# Altium schematic symbol library Fixed-Inductors.SchLib: 6 symbols
Pins are listed as number, name and electrical type; pins without a type are passive.

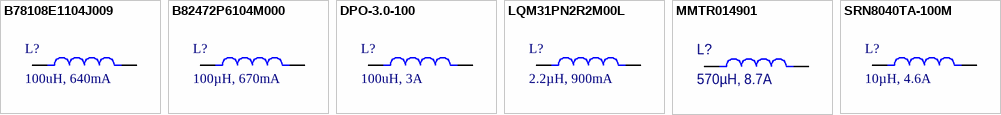
[diagram p0: symbols B78108E1104J009 to SRN8040TA-100M]

## B78108E1104J009
designator L?, comment 100uH, 640mA
FIXED IND 100UH 640MA 1.45OHM TH; Manufacturer: TDK EPCOS; Manufacturer Part Number: B78108E1104J009; Manufacturer Series: B78108E; Inductor Type: GENERAL PURPOSE INDUCTOR; Supplier: Digikey; Supplier Part Number: 495-76014-1-ND; RoHS: Yes; Category: Fixed Inductors; Stock: 29200; Pricing: 1=0.39, 10=0.313, 25=0.2892, 50=0.265, 100=0.2337, 250=0.22644, 500=0.20234, 1000=0.1638 (USD); RoHS Compliant: Yes; Reach SVHC Compliant: No; ComponentLink1URL: https://datasheet.ciiva.com:443/pdfs/VipMasterIC/IC/TDKC/TDKC-S-A0008258046/TDKC-S-A0008258046-1.pdf?src-supplier=IHS+Markit; ComponentLink1Description: https://datasheet.ciiva.com:443/pdfs/VipMasterIC/IC/TDKC/TDKC-S-A0008258046/TDKC-S-A0008258046-1.pdf?src-supplier=IHS+Markit; Value: 100uH
footprint IND-AXIAL_PTH_4X9.5MM
pins: 1, 2

## B82472P6104M000
designator L?, comment 100µH, 670mA
FIXED IND 100UH 670MA 390MOHM SM; Manufacturer: TDK EPCOS; Manufacturer Part Number: B82472P6104M000; Core Material: Ferrite; Tolerance: 20%; Case/Size Code: 2929; DC Resistance (DCR): 390mR; Inductor Application: POWER INDUCTOR; Inductor Type: GENERAL PURPOSE INDUCTOR; Channels: 1; Shape/Size Description: RECTANGULAR PACKAGE; Shielding: Shielded; Test Frequency: 100kHz; Package Height: 4.5mm; Package Length: 7.3mm; Reference Standard: AEC-Q200; Supplier: Digikey; Supplier Part Number: 495-5681-1-ND; RoHS: Yes; Category: Fixed Inductors; Stock: 16169; Pricing: 1=1.38, 10=0.768, 25=0.7468, 50=0.7252 (USD); Pins: 2; Terminal Finish: Tin; Min Operating Temperature: -55°C; Max Operating Temperature: 150°C; JESD-609 Code: e3; Construction: Magnetically Shielded; Inductance-Nom (L): 100uH; Package Style: SMTMeter; Packaging: Tape and Reel; Max Current Rating: 670mA; Surface Mount: Yes; Terminal Placement: Dual Ended; Termination: Wraparound; Package Width: 7.3mm; Reach SVHC Compliant: Yes; RoHS Compliant: Yes; ComponentLink1URL: https://datasheet.ciiva.com:443/pdfs/VipMasterIC/IC/TDKC/TDKC-S-A0008241786/TDKC-S-A0008241944-1.pdf?src-supplier=IHS+Markit; ComponentLink1Description: https://datasheet.ciiva.com:443/pdfs/VipMasterIC/IC/TDKC/TDKC-S-A0008241786/TDKC-S-A0008241944-1.pdf?src-supplier=IHS+Markit; ComponentLink2URL: https://datasheet.ciiva.com/13284/b82472g6-525414-13284668.pdf?src-supplier=Mouser; ComponentLink2Description: https://datasheet.ciiva.com/13284/b82472g6-525414-13284668.pdf?src-supplier=Mouser; ComponentLink3URL: https://datasheet.ciiva.com/22700/1899162-22700811.pdf?src-supplier=Element14; ComponentLink3Description: https://datasheet.ciiva.com/22700/1899162-22700811.pdf?src-supplier=Element14
footprint IND-NONSTANDARD_7.3X7.3MM
pins: 1, 2

## DPO-3.0-100
designator L?, comment 100uH, 3A
FIXED IND 100UH 3A 80 MOHM TH; Manufacturer: Nuvotem; Manufacturer Part Number: DPO-3.0-100; DC Resistance (DCR): 80mR; Inductor Type: GENERAL PURPOSE INDUCTOR; Lead Diameter: 0.63mm; Lead Length: 9.5mm; Package Diameter: 25mm; Package Length: 12mm; Supplier: Digikey; Supplier Part Number: 1295-1171-ND; RoHS: Yes; Category: Fixed Inductors; Stock: 2116; Pricing: 1=2.8, 10=2.376, 25=2.1896, 40=1.9565, 80=1.6305, 230=1.58387, 700=1.49071, 1400=1.39755, 2800=1.35096 (USD); Min Operating Temperature: -40°C; Max Operating Temperature: 125°C; Construction: Toroidal; Inductance-Nom (L): 100uH; Package Style: RadialMeter; Max Current Rating: 3A; Series: DP; Reach SVHC Compliant: Yes; RoHS Compliant: Yes; ComponentLink1URL: https://datasheet.ciiva.com:443/pdfs/VipMasterIC/IC/NUTA/NUTAS00013/NUTAS00013-1.pdf?src-supplier=IHS+Markit; ComponentLink1Description: https://datasheet.ciiva.com:443/pdfs/VipMasterIC/IC/NUTA/NUTAS00013/NUTAS00013-1.pdf?src-supplier=IHS+Markit; ComponentLink2URL: https://datasheet.ciiva.com/18686/dpfeb-07-18686759.pdf?src-supplier=Digikey; ComponentLink2Description: https://datasheet.ciiva.com/18686/dpfeb-07-18686759.pdf?src-supplier=Digikey
footprint IND-TOR_PTH_25X12MM
pins: 1, 2

## LQM31PN2R2M00L
designator L?, comment 2.2µH, 900mA
FIXED IND 2.2UH 900MA 238MOHM SM; Manufacturer: Murata; Manufacturer Part Number: LQM31PN2R2M00L; Core Material: Ferrite; Tolerance: 20%; Case/Size Code: 1206; DC Resistance (DCR): 238mR; Inductor Application: RF INDUCTOR; Inductor Type: GENERAL PURPOSE INDUCTOR; Channels: 1; Self Resonant Frequency: 40MHz; Shape/Size Description: RECTANGULAR PACKAGE; Shielding: Shielded; Test Frequency: 1MHz; Package Height: 0.85mm; Package Length: 3.2mm; Package Width: 1.6mm; Supplier: Digikey; Supplier Part Number: 490-6704-1-ND; RoHS: Yes; Category: Fixed Inductors; Stock: 3209; Pricing: 1=0.31, 10=0.237, 25=0.2144, 50=0.1988, 100=0.1843, 250=0.16664, 500=0.15442, 1000=0.14306 (USD); Pins: 2; Terminal Finish: Tin; Min Operating Temperature: -55°C; Max Operating Temperature: 125°C; JESD-609 Code: e3; Construction: Multilayer Chip; Inductance-Nom (L): 2.2uH; Package Style: SMTMeter; Packaging: Tape and Reel; Max Current Rating: 900mA; Surface Mount: Yes; Terminal Placement: Dual Ended; Termination: Wraparound; Reach SVHC Compliant: Yes; RoHS Compliant: Yes; ComponentLink1URL: https://psearch.en.murata.com:443/inductor/product/LQM31PN2R2M00_.pdf?src-supplier=IHS+Markit; ComponentLink1Description: https://psearch.en.murata.com:443/inductor/product/LQM31PN2R2M00_.pdf?src-supplier=IHS+Markit; ComponentLink2URL: https://datasheet.ciiva.com/3868/136lqm31pn2r2m0023-3868319.pdf?src-supplier=Arrow+Electronics; ComponentLink2Description: https://datasheet.ciiva.com/3868/136lqm31pn2r2m0023-3868319.pdf?src-supplier=Arrow+Electronics; ComponentLink3URL: https://datasheet.ciiva.com/30490/0900766b812561f7-30490183.pdf?src-supplier=Rs; ComponentLink3Description: https://datasheet.ciiva.com/30490/0900766b812561f7-30490183.pdf?src-supplier=Rs; ComponentLink4URL: https://datasheet.ciiva.com/4955/l0075s0104lqm31p-00-4955920.pdf?src-supplier=Mouser; ComponentLink4Description: https://datasheet.ciiva.com/4955/l0075s0104lqm31p-00-4955920.pdf?src-supplier=Mouser; ComponentLink5URL: https://datasheet.ciiva.com/6709/l0075s0104lqm31p-00-6709737.pdf?src-supplier=Digikey; ComponentLink5Description: https://datasheet.ciiva.com/6709/l0075s0104lqm31p-00-6709737.pdf?src-supplier=Digikey; ComponentLink6URL: https://datasheet.ciiva.com/6709/l0075s0104lqm31p-00-6709738.pdf?src-supplier=Digikey; ComponentLink6Description: https://datasheet.ciiva.com/6709/l0075s0104lqm31p-00-6709738.pdf?src-supplier=Digikey; ComponentLink7URL: https://datasheet.ciiva.com/6709/l0075s0104lqm31p-00-6709739.pdf?src-supplier=Digikey; ComponentLink7Description: https://datasheet.ciiva.com/6709/l0075s0104lqm31p-00-6709739.pdf?src-supplier=Digikey; ComponentLink8URL: https://datasheet.ciiva.com/8509/l0075s0104lqm31p-00-8509118.pdf?src-supplier=Avnet; ComponentLink8Description: https://datasheet.ciiva.com/8509/l0075s0104lqm31p-00-8509118.pdf?src-supplier=Avnet; ComponentLink9URL: https://datasheet.ciiva.com/16388/l0075s0104lqm31p-00-16388558.pdf?src-supplier=Future+Electronics; ComponentLink9Description: https://datasheet.ciiva.com/16388/l0075s0104lqm31p-00-16388558.pdf?src-supplier=Future+Electronics
footprint IND-SMD-1206
pins: 1, 2

## MMTR014901
designator L?, comment 570µH, 8.7A
FIXED IND 570UH 8.7A 65MOHM KOOL MU CORE; Manufacturer Part Number: MMTR014901; Manufacturer: Legrand; Value: 570µH; Supplier: Display Max Eletrônica
footprint IND-TOR-MMTR014901
footprint IND-TOR-MMTR014901_NO_MH
pins: 1, 2

## SRN8040TA-100M
designator L?, comment 10µH, 4.6A
FIXED IND 10UH 4.6A 33 MOHM SMD; Manufacturer: Bourns; Manufacturer Part Number: SRN8040TA-100M; Core Material: Ferrite; DC Resistance (DCR): 33mΩ; Inductance Tolerance: 20%; Number of Circuits: 1; Q Factor: 15; Saturation Current: 5A; Self Resonant Frequency: 25MHz; Shielding: Yes; Test Frequency: 1MHz; Supplier: DigiKey; Supplier Part Number: SRN8040TA-100MCT-ND; RoHS: Compliant; Category: Fixed Inductors; Stock: 3939; Pricing: 1=0.58, 10=0.479, 100=0.3942 (USD); Case/Package: 3131; China RoHS: Compliant; Contact Plating: Tin; Height: 3.7mm; Value: 10µH; Lifecycle Status: Production; Max Current Rating: 4.6A; Max Operating Temperature: 125°C; Min Operating Temperature: -55°C; Mounting Technology: Surface Mount; Number of Terminals: 2; Packaging: Cut Tape; REACH SVHC: Yes; RMS Current (Irms): 4.6A; Schedule B: 8504500000, 8504500000|8504500000, 8504500000|8504500000|8504500000, 8504500000|8504500000|8504500000|8504500000; Tolerance: 20%; Width: 8mm; ComponentLink1URL: https://datasheet.octopart.com:443/SRN8040TA-100M-Bourns-datasheet-164397475.pdf?src-supplier=IHS; ComponentLink1Description: https://datasheet.octopart.com:443/SRN8040TA-100M-Bourns-datasheet-164397475.pdf?src-supplier=IHS; ComponentLink2URL: https://datasheet.octopart.com:443/SRN8040TA-100M-Bourns-datasheet-68384046.pdf?src-supplier=element14+APAC; ComponentLink2Description: https://datasheet.octopart.com:443/SRN8040TA-100M-Bourns-datasheet-68384046.pdf?src-supplier=element14+APAC; ComponentLink3URL: https://datasheet.octopart.com:443/SRN8040TA-100M-Bourns-datasheet-66075752.pdf?src-supplier=Newark; ComponentLink3Description: https://datasheet.octopart.com:443/SRN8040TA-100M-Bourns-datasheet-66075752.pdf?src-supplier=Newark; ComponentLink4URL: https://datasheet.octopart.com:443/SRN8040TA-100M-Bourns-datasheet-154729938.pdf?src-supplier=Electro+Sonic; ComponentLink4Description: https://datasheet.octopart.com:443/SRN8040TA-100M-Bourns-datasheet-154729938.pdf?src-supplier=Electro+Sonic; ComponentLink5URL: https://datasheet.octopart.com:443/SRN8040TA-100M-Bourns-datasheet-154729550.pdf?src-supplier=RS+(Formerly+Allied+Electronics); ComponentLink5Description: https://datasheet.octopart.com:443/SRN8040TA-100M-Bourns-datasheet-154729550.pdf?src-supplier=RS+(Formerly+Allied+Electronics); ComponentLink6URL: http://sigma.octopart.com:80/conflict_mineral_statement/Bourns-company-36.pdf?src-supplier=Compliance+Statements; ComponentLink6Description: http://sigma.octopart.com:80/conflict_mineral_statement/Bourns-company-36.pdf?src-supplier=Compliance+Statements
footprint IND-NONSTANDARD_8X8MM
pins: 1, 2